# Altium schematic symbol library CRCW06031R00FKEA.SchLib: 1 symbol
Pins are listed as number, name and electrical type; pins without a type are passive.

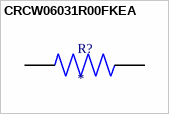
[diagram p0: symbol CRCW06031R00FKEA]

## CRCW06031R00FKEA
designator R?
RES, THICK FILM, 1R, 1%, 0.1W, 0603, REE; MP: CRCW06031R00FKEA; MF: {'manufacturer': u'Vishay Dale'}; Price: None; Availability: Unavailable; Value: *; Package: None
footprint RESC1508X50N
pins: 1, 2